# Altium footprint library Special.PcbLib: 67 footprints (part 1 of 5)
Each footprint in its own frame and in the unit in brackets; x right, y up, seen from the top. Pads: shape width x height; smd on the part's side, far side on the other; paste and mask are expansions set on the pad; w line width, h text height; cw(c..) or ccw(c..) is an arc to the next point about the centre after c.
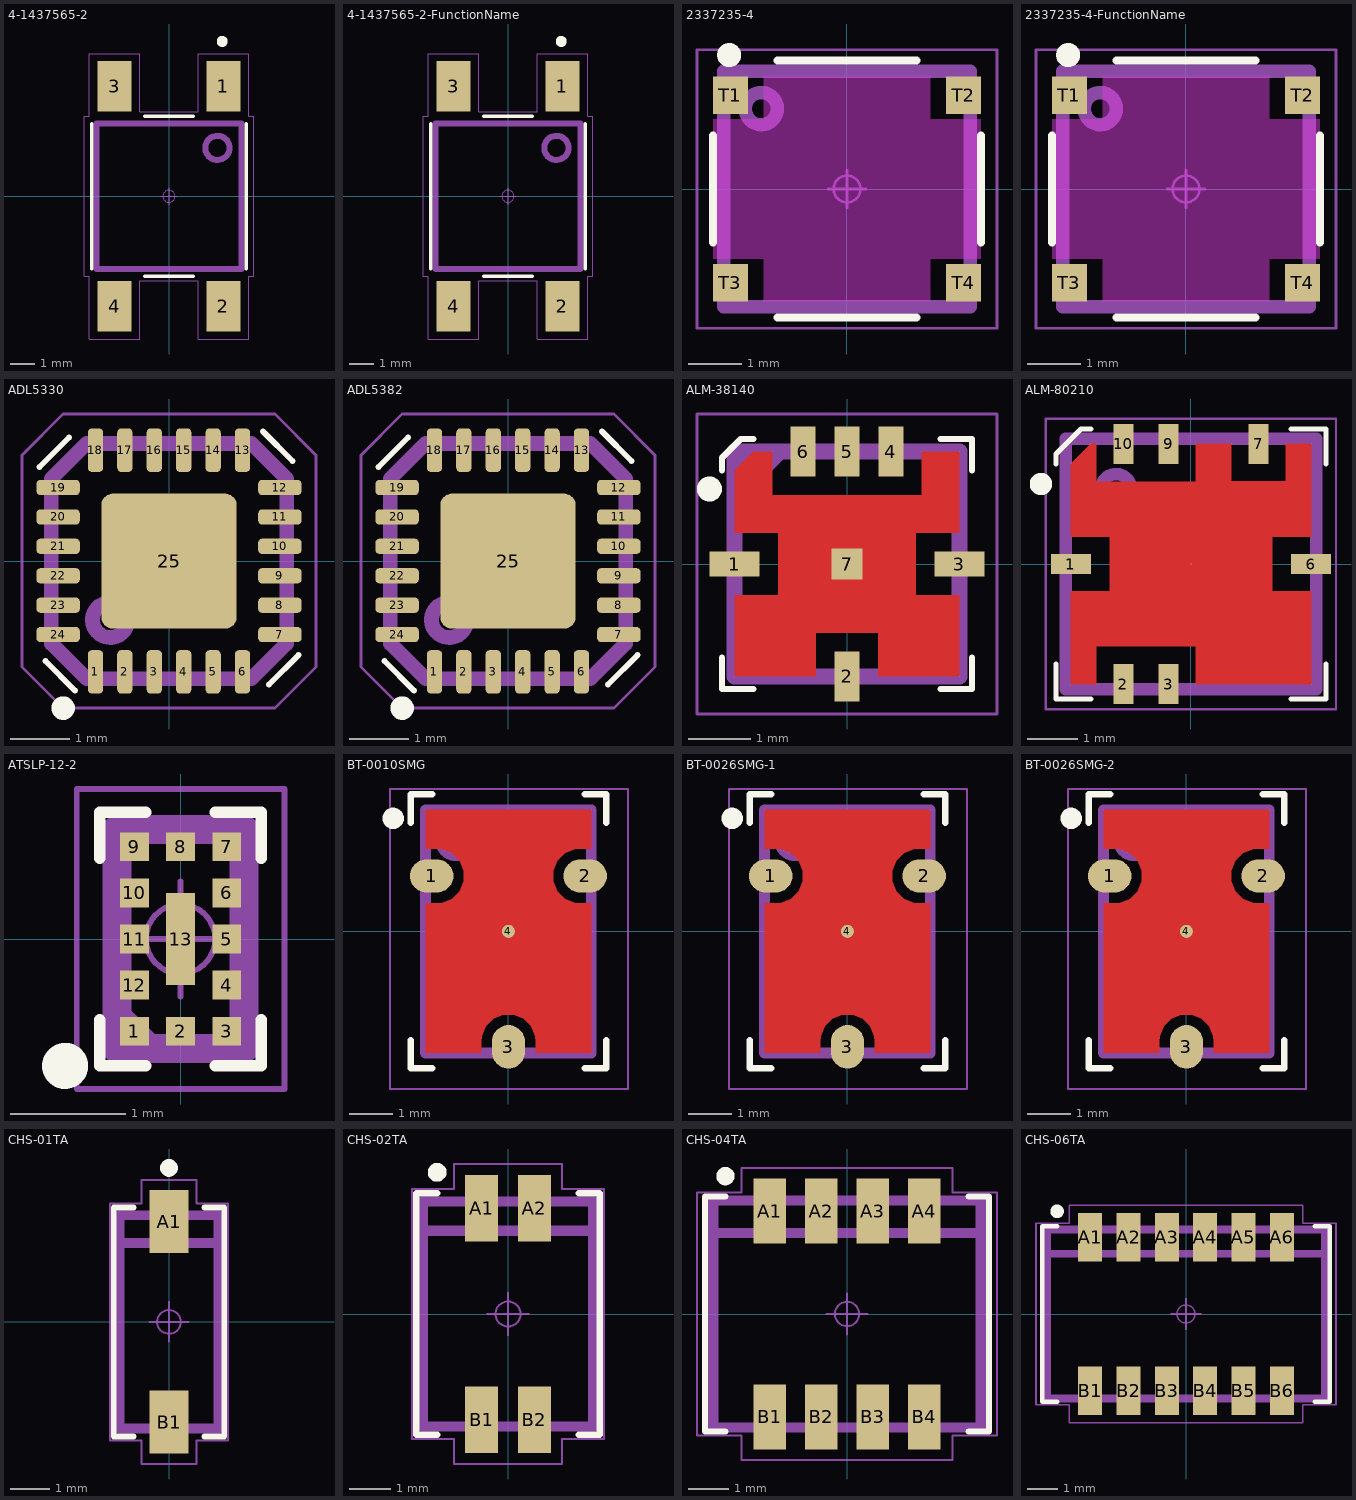
[diagram p0: the footprints below, top view; thin cyan lines are the x and y axes]

## 4-1437565-2 [mm] "Low Profile 6X6X5 mm BLACK"
height 5
pads (4):
  rect 1.4x2.1 smd: 1(2.25,4.55) 2(2.25,-4.55) 3(-2.25,4.55) 4(-2.25,-4.55)
Top Overlay:
  circle w0.25: c2.2,6.4 r0.1
  lines w0.15: -3.2,-3 -3.2,3 ; -1,-3.3 1,-3.3 ; -1,3.3 1,3.3 ; 3.2,-3 3.2,3
Top Assembly:
  circle w0.25: c2,2 r0.5
  lines w0.25: -3,-3 3,-3 3,3 -3,3 -3,-3
  text ".Designator" at -3.378,-0.339 h1.5
Top Courtyard:
  circle w0.05: c0,0 r0.25
  lines w0.05: -0.35,0 0.35,0 ; 0,-0.35 0,0.35 ; -3.5,-3.3 -3.5,3.3 -3.3,3.3 -3.3,5.9 -1.2,5.9 -1.2,3.5 1.2,3.5 1.2,5.9 3.3,5.9 3.3,3.3 3.5,3.3 3.5,-3.3 3.3,-3.3 3.3,-5.9 1.2,-5.9 1.2,-3.5 -1.2,-3.5 -1.2,-5.9 -3.3,-5.9 -3.3,-3.3 -3.5,-3.3
3D body "c-4-1437565-2-v-3d.STEP": height 5.08, standoff 0.01, extent -3,-5 3,5

## 4-1437565-2-FunctionName [mm] "Low Profile 6X6X5 mm BLACK"
height 5
pads (4):
  rect 1.4x2.1 smd: 1(2.25,4.55) 2(2.25,-4.55) 3(-2.25,4.55) 4(-2.25,-4.55)
Top Overlay:
  circle w0.25: c2.2,6.4 r0.1
  lines w0.15: -3.2,-3 -3.2,3 ; -1,-3.3 1,-3.3 ; -1,3.3 1,3.3 ; 3.2,-3 3.2,3
  text ".FunctionName" at 3.928,4.86 h1.5
Top Assembly:
  circle w0.25: c2,2 r0.5
  lines w0.25: -3,-3 -3,3 3,3 3,-3 -3,-3
  text ".Designator" at -3.378,-0.339 h1.5
Top Courtyard:
  circle w0.05: c0,0 r0.25
  lines w0.05: -0.35,0 0.35,0 ; 0,-0.35 0,0.35 ; -3.5,-3.3 -3.5,3.3 -3.3,3.3 -3.3,5.9 -1.2,5.9 -1.2,3.5 1.2,3.5 1.2,5.9 3.3,5.9 3.3,3.3 3.5,3.3 3.5,-3.3 3.3,-3.3 3.3,-5.9 1.2,-5.9 1.2,-3.5 -1.2,-3.5 -1.2,-5.9 -3.3,-5.9 -3.3,-3.3 -3.5,-3.3
3D body "c-4-1437565-2-v-3d.STEP": height 5.08, standoff 0.01, extent -3,-5 3,5

## 2337235-4 [mm] "TE 4.6X4.4X1.05"
height 1.05
pads (4):
  rect 0.65x0.7 smd: T1(-2.175,1.75) T2(2.175,1.75) T3(-2.175,-1.75) T4(2.175,-1.75)
Top Layer keep-out:
  region: -2.5,-1.3 -2.5,1.3 -1.55,1.3 -1.55,2.1 1.55,2.1 1.55,1.3 2.5,1.3 2.5,-1.3 1.55,-1.3 1.55,-2.1 -1.55,-2.1 -1.55,-1.3
Top Overlay:
  circle w0.25: c-2.2,2.5 r0.1
  lines w0.15: -2.5,-1 -2.5,1 ; -1.3,-2.4 1.3,-2.4 ; -1.3,2.4 1.3,2.4 ; 2.5,-1 2.5,1
Top Assembly:
  circle w0.25: c-1.6,1.5 r0.3
  lines w0.25: -2.3,-2.2 2.3,-2.2 2.3,2.2 -2.3,2.2 -2.3,-2.2
  text ".Designator" at -3.378,-0.339 h1.5
Top Courtyard:
  circle w0.05: c0,0 r0.25
  lines w0.05: -0.35,0 0.35,0 ; 0,-0.35 0,0.35 ; -2.8,-2.6 -2.8,2.6 2.8,2.6 2.8,-2.6 -2.8,-2.6
3D body "2337235-4_colors.STEP": height 1.06, standoff 0.01, extent -2.375,-2.2 2.375,2.2

## 2337235-4-FunctionName [mm] "TE 4.6X4.4X1.05"
height 1.05
pads (4):
  rect 0.65x0.7 smd: T1(-2.175,1.75) T2(2.175,1.75) T3(-2.175,-1.75) T4(2.175,-1.75)
Top Layer keep-out:
  region: -2.5,-1.3 -2.5,1.3 -1.55,1.3 -1.55,2.1 1.55,2.1 1.55,1.3 2.5,1.3 2.5,-1.3 1.55,-1.3 1.55,-2.1 -1.55,-2.1 -1.55,-1.3
Top Overlay:
  circle w0.25: c-2.2,2.5 r0.1
  lines w0.15: -2.5,-1 -2.5,1 ; -1.3,-2.4 1.3,-2.4 ; -1.3,2.4 1.3,2.4 ; 2.5,-1 2.5,1
  text ".FunctionName" at -3.864,-3.409 h1.3
Top Assembly:
  circle w0.25: c-1.6,1.5 r0.3
  lines w0.25: -2.3,-2.2 2.3,-2.2 2.3,2.2 -2.3,2.2 -2.3,-2.2
  text ".Designator" at -3.378,-0.339 h1.5
Top Courtyard:
  circle w0.05: c0,0 r0.25
  lines w0.05: -0.35,0 0.35,0 ; 0,-0.35 0,0.35 ; -2.8,-2.6 2.8,-2.6 2.8,2.6 -2.8,2.6 -2.8,-2.6
3D body "2337235-4_colors.STEP": height 1.06, standoff 0.01, extent -2.375,-2.2 2.375,2.2

## ADL5330 [mm] "AD 24-Lead Lead Frame Chip Scale Package  [LFCSP_VQ] 4 mm ? 4 mm Body, Very Thin Quad  (CP-24-2)"
height 1
pads (25):
  rrect54% 0.26x0.74 smd: 1(-1.25,-1.885) 2(-0.75,-1.885) 3(-0.25,-1.885) 4(0.25,-1.885) 5(0.75,-1.885) 6(1.25,-1.885) 13(1.25,1.885) 14(0.75,1.885) 15(0.25,1.885) 16(-0.25,1.885) 17(-0.75,1.885) 18(-1.25,1.885)
  rrect54% 0.74x0.26 smd: 7(1.885,-1.25) 8(1.885,-0.75) 9(1.885,-0.25) 10(1.885,0.25) 11(1.885,0.75) 12(1.885,1.25) 19(-1.885,1.25) 20(-1.885,0.75) 21(-1.885,0.25) 22(-1.885,-0.25) 23(-1.885,-0.75) 24(-1.885,-1.25)
  rrect17% 2.3x2.3 smd paste-2.3: 25(0,0)
Top Overlay:
  circle w0.2: c-1.8,-2.5 r0.1
  lines w0.1: -2.2,1.6 -1.7,2.1 ; -2.1,-1.7 -1.6,-2.2 ; 1.6,2.2 2.1,1.7 ; 1.7,-2.1 2.2,-1.6
Top Paste:
  region: 0.92,-0.92 0.11,-0.92 0.11,-0.11 0.92,-0.11
  region: 0.92,0.11 0.11,0.11 0.11,0.92 0.92,0.92
  region: -0.11,-0.92 -0.92,-0.92 -0.92,-0.11 -0.11,-0.11
  region: -0.11,0.11 -0.92,0.11 -0.92,0.92 -0.11,0.92
Top Assembly:
  circle w0.25: c-1,-1 r0.3
  lines w0.25: -2,-1.4 -1.4,-2 1.4,-2 2,-1.4 2,1.4 1.4,2 -1.4,2 -2,1.4 -2,-1.4
  text ".Designator" at -1.8,-0.4 h1.5
Top Courtyard:
  circle w0.05: c0,0 r0.25
  lines w0.05: -0.35,0 0.35,0 ; 0,-0.35 0,0.35 ; -2.5,-1.8 -1.8,-2.5 1.8,-2.5 2.5,-1.8 2.5,1.8 1.8,2.5 -1.8,2.5 -2.5,1.8 -2.5,-1.8
3D body "ADL5330.STEP": height 1, standoff 0, extent -2,-2 2,2

## ADL5382 [mm] "AD 24-Lead Lead Frame Chip Scale Package  [LFCSP_VQ] 4 mm ? 4 mm Body, Very Thin Quad  (CP-24-2)"
height 1
pads (25):
  rrect54% 0.26x0.74 smd: 1(-1.25,-1.885) 2(-0.75,-1.885) 3(-0.25,-1.885) 4(0.25,-1.885) 5(0.75,-1.885) 6(1.25,-1.885) 13(1.25,1.885) 14(0.75,1.885) 15(0.25,1.885) 16(-0.25,1.885) 17(-0.75,1.885) 18(-1.25,1.885)
  rrect54% 0.74x0.26 smd: 7(1.885,-1.25) 8(1.885,-0.75) 9(1.885,-0.25) 10(1.885,0.25) 11(1.885,0.75) 12(1.885,1.25) 19(-1.885,1.25) 20(-1.885,0.75) 21(-1.885,0.25) 22(-1.885,-0.25) 23(-1.885,-0.75) 24(-1.885,-1.25)
  rrect17% 2.3x2.3 smd paste-2.3: 25(0,0)
Top Overlay:
  circle w0.2: c-1.8,-2.5 r0.1
  lines w0.1: -2.2,1.6 -1.7,2.1 ; -2.1,-1.7 -1.6,-2.2 ; 1.6,2.2 2.1,1.7 ; 1.7,-2.1 2.2,-1.6
Top Paste:
  region: -0.11,0.11 -0.92,0.11 -0.92,0.92 -0.11,0.92
  region: -0.11,-0.92 -0.92,-0.92 -0.92,-0.11 -0.11,-0.11
  region: 0.92,0.11 0.11,0.11 0.11,0.92 0.92,0.92
  region: 0.92,-0.92 0.11,-0.92 0.11,-0.11 0.92,-0.11
Top Assembly:
  circle w0.25: c-1,-1 r0.3
  lines w0.25: -2,-1.4 -2,1.4 -1.4,2 1.4,2 2,1.4 2,-1.4 1.4,-2 -1.4,-2 -2,-1.4
  text ".Designator" at -1.8,-0.4 h1.5
Top Courtyard:
  circle w0.05: c0,0 r0.25
  lines w0.05: -0.35,0 0.35,0 ; 0,-0.35 0,0.35 ; -2.5,-1.8 -2.5,1.8 -1.8,2.5 1.8,2.5 2.5,1.8 2.5,-1.8 1.8,-2.5 -1.8,-2.5 -2.5,-1.8
3D body "ADL5382.STEP": height 1, standoff 0, extent -2,-2 2,2

## ALM-38140 [mm] "AVAGO ALM-38140"
height 1.1
pads (7):
  rect 0.8x0.4 smd: 1(-1.8,0) 3(1.8,0)
  rect 0.4x0.8 smd: 2(0,-1.8) 4(0.7,1.8) 5(0,1.8) 6(-0.7,1.8)
  rect 0.5x0.5 smd: 7(0,0)
Top Layer:
  region: -1.8,-1.8 -1.8,-0.5 -1.1,-0.5 -1.1,0.5 -1.8,0.5 -1.8,1.5 -1.5,1.8 -1.2,1.8 -1.2,1.1 1.2,1.1 1.2,1.8 1.8,1.8 1.8,0.5 1.1,0.5 1.1,-0.5 1.8,-0.5 1.8,-1.8 0.5,-1.8 0.5,-1.1 -0.5,-1.1 -0.5,-1.8
Top Overlay:
  circle w0.2: c-2.2,1.2 r0.1
  lines w0.1: -2,-1.5 -2,-2 -1.5,-2 ; -2,1.5 -2,1.7 -1.7,2 -1.5,2 ; 1.5,-2 2,-2 2,-1.5 ; 1.5,2 2,2 2,1.5
Top Assembly:
  region: -1.8,1.8 -0.9,1.8 -1.8,0.9
  lines w0.25: -1.8,-1.8 1.8,-1.8 1.8,1.8 -1.8,1.8 -1.8,-1.8
  text ".Designator" at -1.6,-0.4 h1.5
Top Courtyard:
  circle w0.05: c0,0 r0.3
  lines w0.05: -0.5,0 0.5,0 ; 0,-0.5 0,0.5 ; -2.4,-2.4 -2.4,2.4 2.4,2.4 2.4,-2.4 -2.4,-2.4
3D body "ALM-38140.STEP": height 1.1, standoff -0.02, extent -1.9,-1.9 1.9,1.9

## ALM-80210 [mm] "AVAGO ALM-80210"
height 0.95
pads (8):
  rect 0.8x0.4 smd: 1(-2.4,0) 6(2.4,0)
  rect 0.4x0.8 smd: 2(-1.35,-2.4) 3(-0.45,-2.4) 7(1.35,2.4) 9(-0.45,2.4) 10(-1.35,2.4)
  round 0.025 smd: 4(0,0)
Top Layer:
  region: -2.4,-2.4 -1.9,-2.4 -1.9,-1.65 0.1,-1.65 0.1,-2.4 2.4,-2.4 2.4,-0.55 1.625,-0.55 1.625,0.55 2.4,0.55 2.4,2.4 1.9,2.4 1.9,1.65 0.8,1.65 0.8,2.4 0.1,2.4 0.1,1.65 -1.9,1.65 -1.9,2.4 -2,2.4 -2.4,2 -2.4,0.55 -1.625,0.55 -1.625,-0.55 -2.4,-0.55
Top Overlay:
  circle w0.25: c-3,1.6 r0.1
  lines w0.1: -2.7,-2 -2.7,-2.7 -2,-2.7 ; -2.7,2 -2.7,2.2 -2.2,2.7 -2,2.7 ; 2,-2.7 2.7,-2.7 2.7,-2 ; 2,2.7 2.7,2.7 2.7,2
Top Assembly:
  circle w0.25: c-1.5,1.5 r0.3
  lines w0.25: -2.5,-2.5 2.5,-2.5 2.5,2.5 -2.5,2.5 -2.5,-2.5
  text ".Designator" at -2.2,-0.4 h1.5
Top Courtyard:
  circle w0.05: c0,0 r0.3
  lines w0.05: -0.7,0 0.7,0 ; 0,-0.7 0,0.7 ; -2.9,-2.9 2.9,-2.9 2.9,2.9 -2.9,2.9 -2.9,-2.9
3D body "ALM-80210.STEP": height 0.95, standoff 0, extent -2.55,-2.55 2.55,2.55

## ATSLP-12-2 [mm] "Infineon case ATSLP-12-2"
height 0.65
pads (13):
  rect 0.25x0.25 smd: 1(-0.4,-0.8) 2(0,-0.8) 3(0.4,-0.8) 4(0.4,-0.4) 5(0.4,0) 6(0.4,0.4) 7(0.4,0.8) 8(0,0.8) 9(-0.4,0.8) 10(-0.4,0.4) 11(-0.4,0) 12(-0.4,-0.4)
  rect 0.25x0.8 smd: 13(0,0)
Top Overlay:
  circle w0.2: c-1,-1.1 r0.1
  lines w0.1: -0.7,-0.7 -0.7,-1.1 -0.3,-1.1 ; -0.7,0.7 -0.7,1.1 -0.3,1.1 ; 0.3,-1.1 0.7,-1.1 0.7,-0.7 ; 0.3,1.1 0.7,1.1 0.7,0.7
Top Assembly:
  region: -0.55,-0.95 -0.55,-0.5 -0.1,-0.95
  lines w0.25: -0.55,-0.95 -0.55,0.95 0.55,0.95 0.55,-0.95 -0.55,-0.95
  text ".Designator" at -1.1,-1.7 h1.5
Top Courtyard:
  circle w0.05: c0,0 r0.3
  lines w0.05: -0.5,0 0.5,0 ; 0,-0.5 0,0.5 ; -0.9,-1.3 0.9,-1.3 0.9,1.3 -0.9,1.3 -0.9,-1.3
3D body "CASE ATSLP-12-2.STEP": height 0.65, standoff 0, extent -0.55,-0.95 0.55,0.95

## BT-0010SMG [mm] "Marki Microwave case BT-0010SMG-1"
height 1.52
pads (4):
  rrect100% 1x0.76 smd: 1(-1.765,1.275) 2(1.765,1.275)
  rrect100% 0.76x1 smd: 3(0,-2.655)
  round 0.3 smd: 4(0,0)
Top Layer:
  region: -1.905,-2.795 -1.905,0.645 -1.645,0.645 -1.522,0.657 -1.295,0.751 -1.121,0.925 -1.027,1.152 -1.027,1.398 -1.121,1.625 -1.295,1.799 -1.522,1.893 -1.645,1.905 -1.905,1.905 -1.905,2.795 1.905,2.795 1.905,1.905 1.645,1.905 1.522,1.893 1.295,1.799 1.121,1.625 1.027,1.398 1.027,1.152 1.121,0.925 1.295,0.751 1.522,0.657 1.645,0.645 1.905,0.645 1.905,-2.795 0.63,-2.795 0.63,-2.535 0.618,-2.412 0.524,-2.185 0.35,-2.011 0.123,-1.917 -0.123,-1.917 -0.35,-2.011 -0.524,-2.185 -0.618,-2.412 -0.63,-2.535 -0.63,-2.795
Top Overlay:
  circle w0.25: c-2.65,2.6 r0.12
  lines w0.15: -2.25,-2.5 -2.25,-3.15 -1.75,-3.15 ; -2.25,2.5 -2.25,3.15 -1.75,3.15 ; 1.75,-3.15 2.25,-3.15 2.25,-2.5 ; 1.75,3.15 2.25,3.15 2.25,2.5
Top Assembly:
  circle w0.25: c-1.2,2.1 r0.361
  lines w0.25: -1.905,-2.795 1.905,-2.795 1.905,2.795 -1.905,2.795 -1.905,-2.795
  text ".Designator" at -1.575,-0.668 h1.5
Top Courtyard:
  circle w0.05: c0,0 r0.3
  lines w0.05: -0.5,0 0.5,0 ; 0,-0.5 0,0.5 ; -2.725,-3.625 -2.725,3.275 2.75,3.275 2.75,-3.625 -2.725,-3.625
3D body "BT-0010SMG-1.STEP": height 1.82, standoff 0, extent -1.905,-2.8 1.905,2.8

## BT-0026SMG-1 [mm] "Marki Microwave case BT-0010SMG-1"
height 1.52
pads (4):
  rrect100% 1x0.76 smd: 1(-1.765,1.275) 2(1.765,1.275)
  rrect100% 0.76x1 smd: 3(0,-2.655)
  round 0.3 smd: 4(0,0)
Top Layer:
  region: -1.905,-2.795 -1.905,0.645 -1.645,0.645 -1.522,0.657 -1.295,0.751 -1.121,0.925 -1.027,1.152 -1.027,1.398 -1.121,1.625 -1.295,1.799 -1.522,1.893 -1.645,1.905 -1.905,1.905 -1.905,2.795 1.905,2.795 1.905,1.905 1.645,1.905 1.522,1.893 1.295,1.799 1.121,1.625 1.027,1.398 1.027,1.152 1.121,0.925 1.295,0.751 1.522,0.657 1.645,0.645 1.905,0.645 1.905,-2.795 0.63,-2.795 0.63,-2.535 0.618,-2.412 0.524,-2.185 0.35,-2.011 0.123,-1.917 -0.123,-1.917 -0.35,-2.011 -0.524,-2.185 -0.618,-2.412 -0.63,-2.535 -0.63,-2.795
Top Overlay:
  circle w0.25: c-2.65,2.6 r0.12
  lines w0.15: -2.25,-2.5 -2.25,-3.15 -1.75,-3.15 ; -2.25,2.5 -2.25,3.15 -1.75,3.15 ; 1.75,-3.15 2.25,-3.15 2.25,-2.5 ; 1.75,3.15 2.25,3.15 2.25,2.5
Top Assembly:
  circle w0.25: c-1.2,2.1 r0.361
  lines w0.25: -1.905,-2.795 1.905,-2.795 1.905,2.795 -1.905,2.795 -1.905,-2.795
  text ".Designator" at -1.575,-0.668 h1.5
Top Courtyard:
  circle w0.05: c0,0 r0.3
  lines w0.05: -0.5,0 0.5,0 ; 0,-0.5 0,0.5 ; -2.725,-3.625 -2.725,3.275 2.75,3.275 2.75,-3.625 -2.725,-3.625
3D body "BT-0026SMG-1.STEP": height 1.82, standoff 0, extent -1.905,-2.8 1.905,2.8

## BT-0026SMG-2 [mm] "Marki Microwave case BT-0010SMG-2"
height 1.52
pads (4):
  rrect100% 1x0.76 smd: 1(-1.765,1.275) 2(1.765,1.275)
  rrect100% 0.76x1 smd: 3(0,-2.655)
  round 0.3 smd: 4(0,0)
Top Layer:
  region: -1.905,-2.795 -1.905,0.645 -1.645,0.645 -1.522,0.657 -1.295,0.751 -1.121,0.925 -1.027,1.152 -1.027,1.398 -1.121,1.625 -1.295,1.799 -1.522,1.893 -1.645,1.905 -1.905,1.905 -1.905,2.795 1.905,2.795 1.905,1.905 1.645,1.905 1.522,1.893 1.295,1.799 1.121,1.625 1.027,1.398 1.027,1.152 1.121,0.925 1.295,0.751 1.522,0.657 1.645,0.645 1.905,0.645 1.905,-2.795 0.63,-2.795 0.63,-2.535 0.618,-2.412 0.524,-2.185 0.35,-2.011 0.123,-1.917 -0.123,-1.917 -0.35,-2.011 -0.524,-2.185 -0.618,-2.412 -0.63,-2.535 -0.63,-2.795
Top Overlay:
  circle w0.25: c-2.65,2.6 r0.12
  lines w0.15: -2.25,-2.5 -2.25,-3.15 -1.75,-3.15 ; -2.25,2.5 -2.25,3.15 -1.75,3.15 ; 1.75,-3.15 2.25,-3.15 2.25,-2.5 ; 1.75,3.15 2.25,3.15 2.25,2.5
Top Assembly:
  circle w0.25: c-1.2,2.1 r0.361
  lines w0.25: -1.905,-2.795 1.905,-2.795 1.905,2.795 -1.905,2.795 -1.905,-2.795
  text ".Designator" at -1.575,-0.668 h1.5
Top Courtyard:
  circle w0.05: c0,0 r0.3
  lines w0.05: -0.5,0 0.5,0 ; 0,-0.5 0,0.5 ; -2.725,-3.625 -2.725,3.275 2.75,3.275 2.75,-3.625 -2.725,-3.625
3D body "BT-0026SMG-2.STEP": height 1.82, standoff 0, extent -1.905,-2.8 1.905,2.8

## CHS-01TA [mm] "Nicel Copal Electronics Low Profile"
height 2.5
pads (2):
  rect 1x1.6 smd: A1(0,2.54) B1(0,-2.54)
Top Overlay:
  circle w0.25: c0,3.9 r0.1
  lines w0.15: -0.9,-2.9 -1.4,-2.9 -1.4,2.9 -0.9,2.9 ; 0.9,-2.9 1.4,-2.9 1.4,2.9 0.9,2.9
Top Assembly:
  lines w0.25: -1.25,2 1.25,2 ; -1.25,-2.7 -1.25,2.7 1.25,2.7 1.25,-2.7 -1.25,-2.7
  text ".Designator" at 0.5,-2.3 h1.5
Top Courtyard:
  circle w0.05: c0,0 r0.3
  lines w0.05: -0.5,0 0.5,0 ; 0,-0.5 0,0.5 ; -1.5,-3 -0.7,-3 -0.7,-3.6 0.7,-3.6 0.7,-3 1.5,-3 1.5,3 0.7,3 0.7,3.6 -0.7,3.6 -0.7,3 -1.5,3 -1.5,-3
3D body "CHS_01TA.STEP": height 2.52, standoff 0, extent -1.25,-2.8 1.25,2.8

## CHS-02TA [mm] "Nicel Copal Electronics Low Profile"
height 2.5
pads (4):
  rect 0.8x1.6 smd: A1(-0.635,2.54) A2(0.635,2.54) B1(-0.635,-2.54) B2(0.635,-2.54)
Top Overlay:
  circle w0.25: c-1.7,3.4 r0.1
  lines w0.15: -1.7,-2.9 -2.2,-2.9 -2.2,2.9 -1.7,2.9 ; 1.7,-2.9 2.2,-2.9 2.2,2.9 1.7,2.9
Top Assembly:
  lines w0.25: -2.05,2.002 2.05,1.994 ; -1.25,-2.7 1.25,-2.7 ; -2.05,-2.7 2.05,-2.7 2.05,2.7 -2.05,2.7 -2.05,-2.7
  text ".Designator" at 0.404,-2.324 h1.5
Top Courtyard:
  circle w0.05: c0,0 r0.3
  lines w0.05: -0.5,0 0.5,0 ; 0,-0.5 0,0.5 ; -2.3,-3 -1.3,-3 -1.3,-3.6 1.3,-3.6 1.3,-3 2.3,-3 2.3,3 1.3,3 1.3,3.6 -1.3,3.6 -1.3,3 -2.3,3 -2.3,-3
3D body "CHS-02TA.stp": height 2.42, standoff -0.1, extent -2.05,-2.8 2.05,2.8

## CHS-04TA [mm] "Nicel Copal Electronics Low Profile"
height 2.5
pads (8):
  rect 0.8x1.6 smd: A1(-1.905,2.54) A2(-0.635,2.54) A3(0.635,2.54) A4(1.905,2.54) B1(-1.905,-2.54) B2(-0.635,-2.54) B3(0.635,-2.54) B4(1.905,-2.54)
Top Overlay:
  circle w0.25: c-3,3.4 r0.1
  lines w0.15: -3,-2.9 -3.5,-2.9 -3.5,2.9 -3,2.9 ; 3,-2.9 3.5,-2.9 3.5,2.9 3,2.9
Top Assembly:
  lines w0.25: -3.3,2 3.3,2 ; -3.3,-2.8 3.3,-2.8 3.3,2.8 -3.3,2.8 -3.3,-2.8
  text ".Designator" at -3,-0.7 h1.5
Top Courtyard:
  circle w0.05: c0,0 r0.3
  lines w0.05: -0.5,0 0.5,0 ; 0,-0.5 0,0.5 ; -3.7,-3 -3.7,3 -2.6,3 -2.6,3.6 2.6,3.6 2.6,3 3.7,3 3.7,-3 2.6,-3 2.6,-3.6 -2.6,-3.6 -2.6,-3 -3.7,-3
3D body "CHS-04TA.stp": height 2.52, standoff 0, extent -3.3,-2.8 3.3,2.8

## CHS-06TA [mm] "Nicel Copal Electronics Low Profile"
height 2.5
pads (12):
  rect 0.8x1.6 smd: A1(-3.175,2.54) A2(-1.905,2.54) A3(-0.635,2.54) A4(0.635,2.54) A5(1.905,2.54) A6(3.175,2.54) B1(-3.175,-2.54) B2(-1.905,-2.54) B3(-0.635,-2.54) B4(0.635,-2.54) B5(1.905,-2.54) B6(3.175,-2.54)
Top Overlay:
  circle w0.25: c-4.27,3.4 r0.1
  lines w0.15: -4.27,-2.9 -4.77,-2.9 -4.77,2.9 -4.27,2.9 ; 4.27,-2.9 4.77,-2.9 4.77,2.9 4.27,2.9
Top Assembly:
  lines w0.25: -4.6,2 4.6,2 ; -4.6,-2.8 4.6,-2.8 4.6,2.8 -4.6,2.8 -4.6,-2.8
  text ".Designator" at -3,-0.7 h1.5
Top Courtyard:
  circle w0.05: c0,0 r0.3
  lines w0.05: -0.5,0 0.5,0 ; 0,-0.5 0,0.5 ; -4.97,-3 -4.97,3 -3.87,3 -3.87,3.6 3.87,3.6 3.87,3 4.97,3 4.97,-3 3.87,-3 3.87,-3.6 -3.87,-3.6 -3.87,-3 -4.97,-3
3D body "CHS-06TA.stp": height 2.52, standoff 0, extent -4.6,-2.8 4.6,2.8